# EAGLE library part XC7Z010-1CLG400C (library ICs)
Dual ARM® Cortex®-A9 MPCore™ with CoreSight™ System On Chip (SOC) IC Zynq®-7000 Artix™-7 FPGA, 28K Logic Cells 667MHz 400-CSPBGA (17x17)
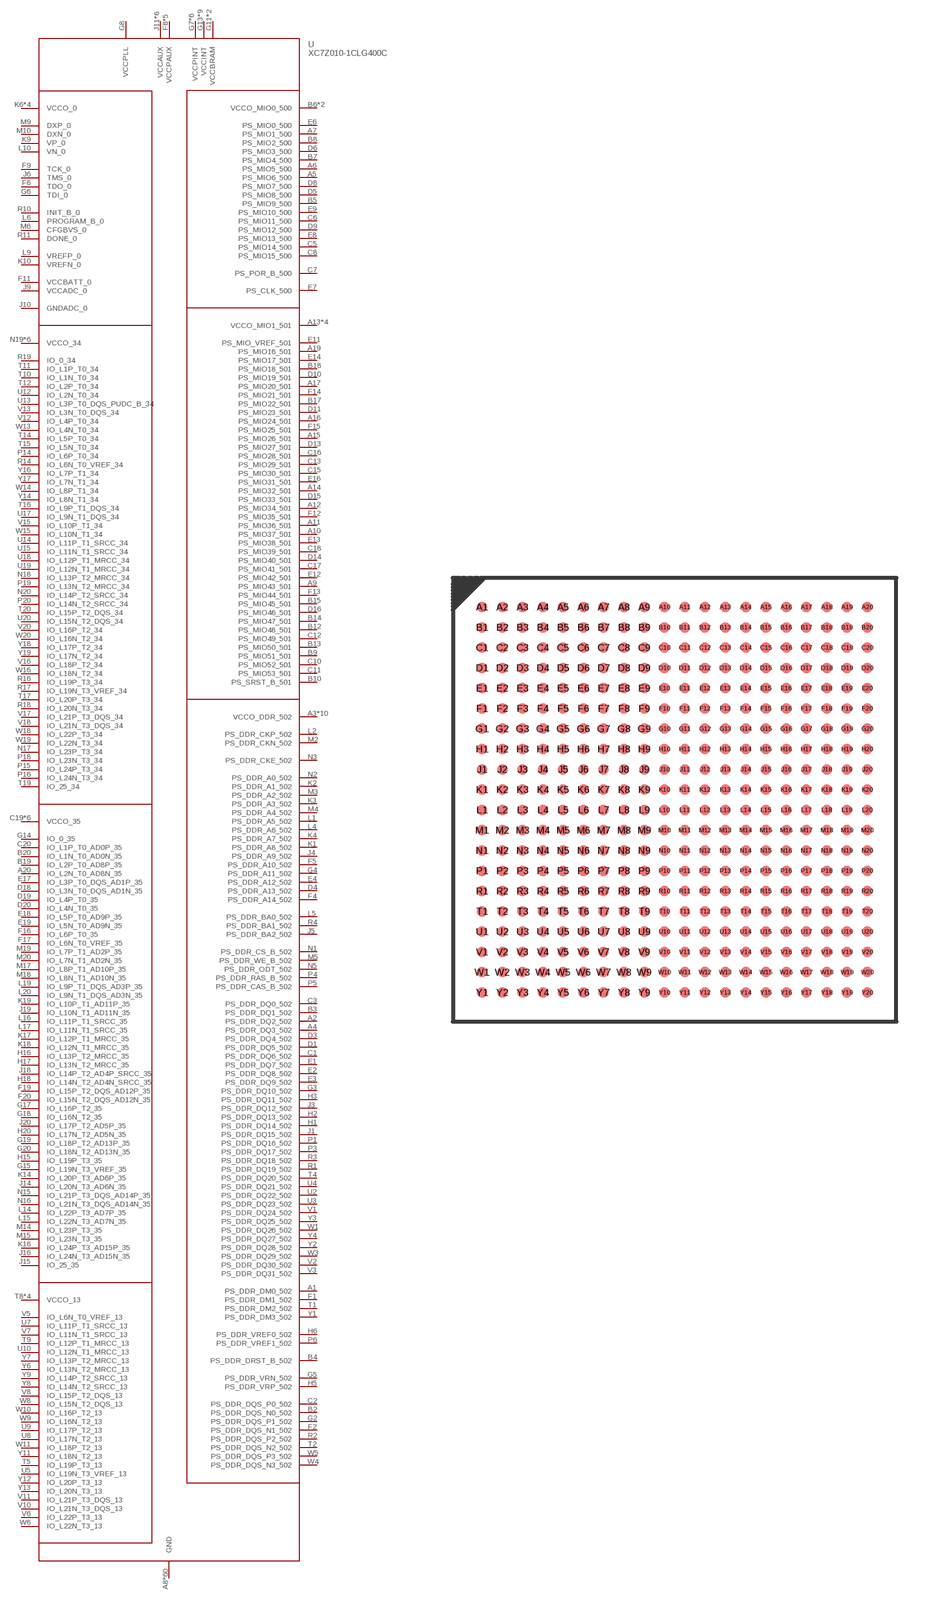
[diagram p300: symbol with the pads of CLG400_XIL-L; footprint CLG400_XIL-L]

Designator prefix U

## XC7Z010-1CLG400C (DIGIKEY: 122-1854-ND; HEIGHT: 3; PRICE_PER: 65.66; VALUE: XC7Z010-1CLG400C)  [CLG400_XIL-L]
A1  PS_DDR_DM0_502  out
A2  PS_DDR_DQ2_502
A3  VCCO_DDR_502  pwr
A4  PS_DDR_DQ3_502
A5  PS_MIO6_500
A6  PS_MIO5_500
A7  PS_MIO1_500
A8  GND  pas
A9  PS_MIO43_501
A10  PS_MIO37_501
A11  PS_MIO36_501
A12  PS_MIO34_501
A13  VCCO_MIO1_501  pwr
A14  PS_MIO32_501
A15  PS_MIO26_501
A16  PS_MIO24_501
A17  PS_MIO20_501
A18  GND  pas
A19  PS_MIO16_501
A20  IO_L2N_T0_AD8N_35
B1  GND  pas
B2  PS_DDR_DQS_N0_502
B3  PS_DDR_DQ1_502
B4  PS_DDR_DRST_B_502  out
B5  PS_MIO9_500
B6  VCCO_MIO0_500  pwr
B7  PS_MIO4_500
B8  PS_MIO2_500
B9  PS_MIO51_501
B10  PS_SRST_B_501  in
B11  GND  pas
B12  PS_MIO48_501
B13  PS_MIO50_501
B14  PS_MIO47_501
B15  PS_MIO45_501
B16  VCCO_MIO1_501  pwr
B17  PS_MIO22_501
B18  PS_MIO18_501
B19  IO_L2P_T0_AD8P_35
B20  IO_L1N_T0_AD0N_35
C1  PS_DDR_DQ6_502
C2  PS_DDR_DQS_P0_502
C3  PS_DDR_DQ0_502
C4  GND  pas
C5  PS_MIO14_500
C6  PS_MIO11_500
C7  PS_POR_B_500  in
C8  PS_MIO15_500
C9  GND  pas
C10  PS_MIO52_501
C11  PS_MIO53_501
C12  PS_MIO49_501
C13  PS_MIO29_501
C14  GND  pas
C15  PS_MIO30_501
C16  PS_MIO28_501
C17  PS_MIO41_501
C18  PS_MIO39_501
C19  VCCO_35  pwr
C20  IO_L1P_T0_AD0P_35
D1  PS_DDR_DQ5_502
D2  VCCO_DDR_502  pwr
D3  PS_DDR_DQ4_502
D4  PS_DDR_A13_502  out
D5  PS_MIO8_500
D6  PS_MIO3_500
D7  VCCO_MIO0_500  pwr
D8  PS_MIO7_500
D9  PS_MIO12_500
D10  PS_MIO19_501
D11  PS_MIO23_501
D12  VCCO_MIO1_501  pwr
D13  PS_MIO27_501
D14  PS_MIO40_501
D15  PS_MIO33_501
D16  PS_MIO46_501
D17  GND  pas
D18  IO_L3N_T0_DQS_AD1N_35
D19  IO_L4P_T0_35
D20  IO_L4N_T0_35
E1  PS_DDR_DQ7_502
E2  PS_DDR_DQ8_502
E3  PS_DDR_DQ9_502
E4  PS_DDR_A12_502  out
E5  VCCO_DDR_502  pwr
E6  PS_MIO0_500
E7  PS_CLK_500  in
E8  PS_MIO13_500
E9  PS_MIO10_500
E10  GND  pas
E11  PS_MIO_VREF_501  pwr
E12  PS_MIO42_501
E13  PS_MIO38_501
E14  PS_MIO17_501
E15  VCCO_MIO1_501  pwr
E16  PS_MIO31_501
E17  IO_L3P_T0_DQS_AD1P_35
E18  IO_L5P_T0_AD9P_35
E19  IO_L5N_T0_AD9N_35
E20  GND  pas
F1  PS_DDR_DM1_502  out
F2  PS_DDR_DQS_N1_502
F3  GND  pas
F4  PS_DDR_A14_502  out
F5  PS_DDR_A10_502  out
F6  TDO_0  out
F7  GND  pas
F8  VCCPAUX  pwr
F9  TCK_0  in
F10  GND  pas
F11  VCCBATT_0  pwr
F12  PS_MIO35_501
F13  PS_MIO44_501
F14  PS_MIO21_501
F15  PS_MIO25_501
F16  IO_L6P_T0_35
F17  IO_L6N_T0_VREF_35
F18  VCCO_35  pwr
F19  IO_L15P_T2_DQS_AD12P_35
F20  IO_L15N_T2_DQS_AD12N_35
G1  VCCO_DDR_502  pwr
G2  PS_DDR_DQS_P1_502
G3  PS_DDR_DQ10_502
G4  PS_DDR_A11_502  out
G5  PS_DDR_VRN_502  out
G6  TDI_0  in
G7  VCCPINT  pwr
G8  VCCPLL  pwr
G9  VCCPAUX  pwr
G10  GND  pas
G11  VCCBRAM  pwr
G12  GND  pas
G13  VCCINT  pwr
G14  IO_0_35
G15  IO_L19N_T3_VREF_35
G16  GND  pas
G17  IO_L16P_T2_35
G18  IO_L16N_T2_35
G19  IO_L18P_T2_AD13P_35
G20  IO_L18N_T2_AD13N_35
H1  PS_DDR_DQ14_502
H2  PS_DDR_DQ13_502
H3  PS_DDR_DQ11_502
H4  VCCO_DDR_502  pwr
H5  PS_DDR_VRP_502  out
H6  PS_DDR_VREF0_502  pwr
H7  GND  pas
H8  VCCPAUX  pwr
H9  GND  pas
H10  VCCBRAM  pwr
H11  GND  pas
H12  VCCINT  pwr
H13  GND  pas
H14  VCCO_35  pwr
H15  IO_L19P_T3_35
H16  IO_L13P_T2_MRCC_35
H17  IO_L13N_T2_MRCC_35
H18  IO_L14N_T2_AD4N_SRCC_35
H19  GND  pas
H20  IO_L17N_T2_AD5N_35
J1  PS_DDR_DQ15_502
J2  GND  pas
J3  PS_DDR_DQ12_502
J4  PS_DDR_A9_502  out
J5  PS_DDR_BA2_502  out
J6  TMS_0  in
J7  VCCPINT  pwr
J8  GND  pas
J9  VCCADC_0  pwr
J10  GNDADC_0  pas
J11  VCCAUX  pwr
J12  GND  pas
J13  VCCINT  pwr
J14  IO_L20N_T3_AD6N_35
J15  IO_25_35
J16  IO_L24N_T3_AD15N_35
J17  VCCO_35  pwr
J18  IO_L14P_T2_AD4P_SRCC_35
J19  IO_L10N_T1_AD11N_35
J20  IO_L17P_T2_AD5P_35
K1  PS_DDR_A8_502  out
K2  PS_DDR_A1_502  out
K3  PS_DDR_A3_502  out
K4  PS_DDR_A7_502  out
K5  GND  pas
K6  VCCO_0  pwr
K7  GND  pas
K8  VCCPAUX  pwr
K9  VP_0  in
K10  VREFN_0  pwr
K11  GND  pas
K12  VCCINT  pwr
K13  GND  pas
K14  IO_L20P_T3_AD6P_35
K15  GND  pas
K16  IO_L24P_T3_AD15P_35
K17  IO_L12P_T1_MRCC_35
K18  IO_L12N_T1_MRCC_35
K19  IO_L10P_T1_AD11P_35
K20  VCCO_35  pwr
L1  PS_DDR_A5_502  out
L2  PS_DDR_CKP_502  out
L3  VCCO_DDR_502  pwr
L4  PS_DDR_A6_502  out
L5  PS_DDR_BA0_502  out
L6  PROGRAM_B_0  in
L7  VCCPINT  pwr
L8  GND  pas
L9  VREFP_0  pwr
L10  VN_0  in
L11  VCCAUX  pwr
L12  GND  pas
L13  VCCINT  pwr
L14  IO_L22P_T3_AD7P_35
L15  IO_L22N_T3_AD7N_35
L16  IO_L11P_T1_SRCC_35
L17  IO_L11N_T1_SRCC_35
L18  GND  pas
L19  IO_L9P_T1_DQS_AD3P_35
L20  IO_L9N_T1_DQS_AD3N_35
M1  GND  pas
M2  PS_DDR_CKN_502  out
M3  PS_DDR_A2_502  out
M4  PS_DDR_A4_502  out
M5  PS_DDR_WE_B_502  out
M6  CFGBVS_0  in
M7  GND  pas
M8  VCCPAUX  pwr
M9  DXP_0  pas
M10  DXN_0  pas
M11  GND  pas
M12  VCCINT  pwr
M13  GND  pas
M14  IO_L23P_T3_35
M15  IO_L23N_T3_35
M16  VCCO_35  pwr
M17  IO_L8P_T1_AD10P_35
M18  IO_L8N_T1_AD10N_35
M19  IO_L7P_T1_AD2P_35
M20  IO_L7N_T1_AD2N_35
N1  PS_DDR_CS_B_502  out
N2  PS_DDR_A0_502  out
N3  PS_DDR_CKE_502  out
N4  GND  pas
N5  PS_DDR_ODT_502  out
N6  VCCO_0  pwr
N7  VCCPINT  pwr
N8  GND  pas
N9  VCCAUX  pwr
N10  GND  pas
N11  VCCAUX  pwr
N12  GND  pas
N13  VCCINT  pwr
N14  GND  pas
N15  IO_L21P_T3_DQS_AD14P_35
N16  IO_L21N_T3_DQS_AD14N_35
N17  IO_L23P_T3_34
N18  IO_L13P_T2_MRCC_34
N19  VCCO_34  pwr
N20  IO_L14P_T2_SRCC_34
P1  PS_DDR_DQ16_502
P2  VCCO_DDR_502  pwr
P3  PS_DDR_DQ17_502
P4  PS_DDR_RAS_B_502  out
P5  PS_DDR_CAS_B_502  out
P6  PS_DDR_VREF1_502  pwr
P7  GND  pas
P8  VCCPINT  pwr
P9  GND  pas
P10  VCCAUX  pwr
P11  GND  pas
P12  VCCINT  pwr
P13  GND  pas
P14  IO_L6P_T0_34
P15  IO_L24P_T3_34
P16  IO_L24N_T3_34
P17  GND  pas
P18  IO_L23N_T3_34
P19  IO_L13N_T2_MRCC_34
P20  IO_L14N_T2_SRCC_34
R1  PS_DDR_DQ19_502
R2  PS_DDR_DQS_P2_502
R3  PS_DDR_DQ18_502
R4  PS_DDR_BA1_502  out
R5  VCCO_DDR_502  pwr
R6  VCCO_0  pwr
R7  VCCPINT  pwr
R8  GND  pas
R9  VCCAUX  pwr
R10  INIT_B_0
R11  DONE_0
R12  GND  pas
R13  VCCINT  pwr
R14  IO_L6N_T0_VREF_34
R15  VCCO_34  pwr
R16  IO_L19P_T3_34
R17  IO_L19N_T3_VREF_34
R18  IO_L20N_T3_34
R19  IO_0_34
R20  GND  pas
T1  PS_DDR_DM2_502  out
T2  PS_DDR_DQS_N2_502
T3  GND  pas
T4  PS_DDR_DQ20_502
T5  IO_L19P_T3_13
T6  VCCO_0  pwr
T7  GND  pas
T8  VCCO_13  pwr
T9  IO_L12P_T1_MRCC_13
T10  IO_L1N_T0_34
T11  IO_L1P_T0_34
T12  IO_L2P_T0_34
T13  GND  pas
T14  IO_L5P_T0_34
T15  IO_L5N_T0_34
T16  IO_L9P_T1_DQS_34
T17  IO_L20P_T3_34
T18  VCCO_34  pwr
T19  IO_25_34
T20  IO_L15P_T2_DQS_34
U1  VCCO_DDR_502  pwr
U2  PS_DDR_DQ22_502
U3  PS_DDR_DQ23_502
U4  PS_DDR_DQ21_502
U5  IO_L19N_T3_VREF_13
U6  GND  pas
U7  IO_L11P_T1_SRCC_13
U8  IO_L17N_T2_13
U9  IO_L17P_T2_13
U10  IO_L12N_T1_MRCC_13
U11  VCCO_13  pwr
U12  IO_L2N_T0_34
U13  IO_L3P_T0_DQS_PUDC_B_34
U14  IO_L11P_T1_SRCC_34
U15  IO_L11N_T1_SRCC_34
U16  GND  pas
U17  IO_L9N_T1_DQS_34
U18  IO_L12P_T1_MRCC_34
U19  IO_L12N_T1_MRCC_34
U20  IO_L15N_T2_DQS_34
V1  PS_DDR_DQ24_502
V2  PS_DDR_DQ30_502
V3  PS_DDR_DQ31_502
V4  VCCO_DDR_502  pwr
V5  IO_L6N_T0_VREF_13
V6  IO_L22P_T3_13
V7  IO_L11N_T1_SRCC_13
V8  IO_L15P_T2_DQS_13
V9  GND  pas
V10  IO_L21N_T3_DQS_13
V11  IO_L21P_T3_DQS_13
V12  IO_L4P_T0_34
V13  IO_L3N_T0_DQS_34
V14  VCCO_34  pwr
V15  IO_L10P_T1_34
V16  IO_L18P_T2_34
V17  IO_L21P_T3_DQS_34
V18  IO_L21N_T3_DQS_34
V19  GND  pas
V20  IO_L16P_T2_34
W1  PS_DDR_DQ26_502
W2  GND  pas
W3  PS_DDR_DQ29_502
W4  PS_DDR_DQS_N3_502
W5  PS_DDR_DQS_P3_502
W6  IO_L22N_T3_13
W7  VCCO_13  pwr
W8  IO_L15N_T2_DQS_13
W9  IO_L16N_T2_13
W10  IO_L16P_T2_13
W11  IO_L18P_T2_13
W12  GND  pas
W13  IO_L4N_T0_34
W14  IO_L8P_T1_34
W15  IO_L10N_T1_34
W16  IO_L18N_T2_34
W17  VCCO_34  pwr
W18  IO_L22P_T3_34
W19  IO_L22N_T3_34
W20  IO_L16N_T2_34
Y1  PS_DDR_DM3_502  out
Y2  PS_DDR_DQ28_502
Y3  PS_DDR_DQ25_502
Y4  PS_DDR_DQ27_502
Y5  GND  pas
Y6  IO_L13N_T2_MRCC_13
Y7  IO_L13P_T2_MRCC_13
Y8  IO_L14N_T2_SRCC_13
Y9  IO_L14P_T2_SRCC_13
Y10  VCCO_13  pwr
Y11  IO_L18N_T2_13
Y12  IO_L20P_T3_13
Y13  IO_L20N_T3_13
Y14  IO_L8N_T1_34
Y15  GND  pas
Y16  IO_L7P_T1_34
Y17  IO_L7N_T1_34
Y18  IO_L17P_T2_34
Y19  IO_L17N_T2_34
Y20  VCCO_34  pwr

## Footprint CLG400_XIL-L (pad centres in mm)
smd 0.419 x 0.419: A1 -7.6,7.6; A2 -6.8,7.6; A3 -6,7.6; A4 -5.2,7.6; A5 -4.4,7.6; A6 -3.6,7.6; A7 -2.8,7.6; A8 -2,7.6; A9 -1.2,7.6; A10 -0.4,7.6; A11 0.4,7.6; A12 1.2,7.6; A13 2,7.6; A14 2.8,7.6; A15 3.6,7.6; A16 4.4,7.6; A17 5.2,7.6; A18 6,7.6; A19 6.8,7.6; A20 7.6,7.6; B1 -7.6,6.8; B2 -6.8,6.8; B3 -6,6.8; B4 -5.2,6.8; B5 -4.4,6.8; B6 -3.6,6.8; B7 -2.8,6.8; B8 -2,6.8; B9 -1.2,6.8; B10 -0.4,6.8; B11 0.4,6.8; B12 1.2,6.8; B13 2,6.8; B14 2.8,6.8; B15 3.6,6.8; B16 4.4,6.8; B17 5.2,6.8; B18 6,6.8; B19 6.8,6.8; B20 7.6,6.8; C1 -7.6,6; C2 -6.8,6; C3 -6,6; C4 -5.2,6; C5 -4.4,6; C6 -3.6,6; C7 -2.8,6; C8 -2,6; C9 -1.2,6; C10 -0.4,6; C11 0.4,6; C12 1.2,6; C13 2,6; C14 2.8,6; C15 3.6,6; C16 4.4,6; C17 5.2,6; C18 6,6; C19 6.8,6; C20 7.6,6; D1 -7.6,5.2; D2 -6.8,5.2; D3 -6,5.2; D4 -5.2,5.2; D5 -4.4,5.2; D6 -3.6,5.2; D7 -2.8,5.2; D8 -2,5.2; D9 -1.2,5.2; D10 -0.4,5.2; D11 0.4,5.2; D12 1.2,5.2; D13 2,5.2; D14 2.8,5.2; D15 3.6,5.2; D16 4.4,5.2; D17 5.2,5.2; D18 6,5.2; D19 6.8,5.2; D20 7.6,5.2; E1 -7.6,4.4; E2 -6.8,4.4; E3 -6,4.4; E4 -5.2,4.4; E5 -4.4,4.4; E6 -3.6,4.4; E7 -2.8,4.4; E8 -2,4.4; E9 -1.2,4.4; E10 -0.4,4.4; E11 0.4,4.4; E12 1.2,4.4; E13 2,4.4; E14 2.8,4.4; E15 3.6,4.4; E16 4.4,4.4; E17 5.2,4.4; E18 6,4.4; E19 6.8,4.4; E20 7.6,4.4; F1 -7.6,3.6; F2 -6.8,3.6; F3 -6,3.6; F4 -5.2,3.6; F5 -4.4,3.6; F6 -3.6,3.6; F7 -2.8,3.6; F8 -2,3.6; F9 -1.2,3.6; F10 -0.4,3.6; F11 0.4,3.6; F12 1.2,3.6; F13 2,3.6; F14 2.8,3.6; F15 3.6,3.6; F16 4.4,3.6; F17 5.2,3.6; F18 6,3.6; F19 6.8,3.6; F20 7.6,3.6; G1 -7.6,2.8; G2 -6.8,2.8; G3 -6,2.8; G4 -5.2,2.8; G5 -4.4,2.8; G6 -3.6,2.8; G7 -2.8,2.8; G8 -2,2.8; G9 -1.2,2.8; G10 -0.4,2.8; G11 0.4,2.8; G12 1.2,2.8; G13 2,2.8; G14 2.8,2.8; G15 3.6,2.8; G16 4.4,2.8; G17 5.2,2.8; G18 6,2.8; G19 6.8,2.8; G20 7.6,2.8; H1 -7.6,2; H2 -6.8,2; H3 -6,2; H4 -5.2,2; H5 -4.4,2; H6 -3.6,2; H7 -2.8,2; H8 -2,2; H9 -1.2,2; H10 -0.4,2; H11 0.4,2; H12 1.2,2; H13 2,2; H14 2.8,2; H15 3.6,2; H16 4.4,2; H17 5.2,2; H18 6,2; H19 6.8,2; H20 7.6,2; J1 -7.6,1.2; J2 -6.8,1.2; J3 -6,1.2; J4 -5.2,1.2; J5 -4.4,1.2; J6 -3.6,1.2; J7 -2.8,1.2; J8 -2,1.2; J9 -1.2,1.2; J10 -0.4,1.2; J11 0.4,1.2; J12 1.2,1.2; J13 2,1.2; J14 2.8,1.2; J15 3.6,1.2; J16 4.4,1.2; J17 5.2,1.2; J18 6,1.2; J19 6.8,1.2; J20 7.6,1.2; K1 -7.6,0.4; K2 -6.8,0.4; K3 -6,0.4; K4 -5.2,0.4; K5 -4.4,0.4; K6 -3.6,0.4; K7 -2.8,0.4; K8 -2,0.4; K9 -1.2,0.4; K10 -0.4,0.4; K11 0.4,0.4; K12 1.2,0.4; K13 2,0.4; K14 2.8,0.4; K15 3.6,0.4; K16 4.4,0.4; K17 5.2,0.4; K18 6,0.4; K19 6.8,0.4; K20 7.6,0.4; L1 -7.6,-0.4; L2 -6.8,-0.4; L3 -6,-0.4; L4 -5.2,-0.4; L5 -4.4,-0.4; L6 -3.6,-0.4; L7 -2.8,-0.4; L8 -2,-0.4; L9 -1.2,-0.4; L10 -0.4,-0.4; L11 0.4,-0.4; L12 1.2,-0.4; L13 2,-0.4; L14 2.8,-0.4; L15 3.6,-0.4; L16 4.4,-0.4; L17 5.2,-0.4; L18 6,-0.4; L19 6.8,-0.4; L20 7.6,-0.4; M1 -7.6,-1.2; M2 -6.8,-1.2; M3 -6,-1.2; M4 -5.2,-1.2; M5 -4.4,-1.2; M6 -3.6,-1.2; M7 -2.8,-1.2; M8 -2,-1.2; M9 -1.2,-1.2; M10 -0.4,-1.2; M11 0.4,-1.2; M12 1.2,-1.2; M13 2,-1.2; M14 2.8,-1.2; M15 3.6,-1.2; M16 4.4,-1.2; M17 5.2,-1.2; M18 6,-1.2; M19 6.8,-1.2; M20 7.6,-1.2; N1 -7.6,-2; N2 -6.8,-2; N3 -6,-2; N4 -5.2,-2; N5 -4.4,-2; N6 -3.6,-2; N7 -2.8,-2; N8 -2,-2; N9 -1.2,-2; N10 -0.4,-2; N11 0.4,-2; N12 1.2,-2; N13 2,-2; N14 2.8,-2; N15 3.6,-2; N16 4.4,-2; N17 5.2,-2; N18 6,-2; N19 6.8,-2; N20 7.6,-2; P1 -7.6,-2.8; P2 -6.8,-2.8; P3 -6,-2.8; P4 -5.2,-2.8; P5 -4.4,-2.8; P6 -3.6,-2.8; P7 -2.8,-2.8; P8 -2,-2.8; P9 -1.2,-2.8; P10 -0.4,-2.8; P11 0.4,-2.8; P12 1.2,-2.8; P13 2,-2.8; P14 2.8,-2.8; P15 3.6,-2.8; P16 4.4,-2.8; P17 5.2,-2.8; P18 6,-2.8; P19 6.8,-2.8; P20 7.6,-2.8; R1 -7.6,-3.6; R2 -6.8,-3.6; R3 -6,-3.6; R4 -5.2,-3.6; R5 -4.4,-3.6; R6 -3.6,-3.6; R7 -2.8,-3.6; R8 -2,-3.6; R9 -1.2,-3.6; R10 -0.4,-3.6; R11 0.4,-3.6; R12 1.2,-3.6; R13 2,-3.6; R14 2.8,-3.6; R15 3.6,-3.6; R16 4.4,-3.6; R17 5.2,-3.6; R18 6,-3.6; R19 6.8,-3.6; R20 7.6,-3.6; T1 -7.6,-4.4; T2 -6.8,-4.4; T3 -6,-4.4; T4 -5.2,-4.4; T5 -4.4,-4.4; T6 -3.6,-4.4; T7 -2.8,-4.4; T8 -2,-4.4; T9 -1.2,-4.4; T10 -0.4,-4.4; T11 0.4,-4.4; T12 1.2,-4.4; T13 2,-4.4; T14 2.8,-4.4; T15 3.6,-4.4; T16 4.4,-4.4; T17 5.2,-4.4; T18 6,-4.4; T19 6.8,-4.4; T20 7.6,-4.4; U1 -7.6,-5.2; U2 -6.8,-5.2; U3 -6,-5.2; U4 -5.2,-5.2; U5 -4.4,-5.2; U6 -3.6,-5.2; U7 -2.8,-5.2; U8 -2,-5.2; U9 -1.2,-5.2; U10 -0.4,-5.2; U11 0.4,-5.2; U12 1.2,-5.2; U13 2,-5.2; U14 2.8,-5.2; U15 3.6,-5.2; U16 4.4,-5.2; U17 5.2,-5.2; U18 6,-5.2; U19 6.8,-5.2; U20 7.6,-5.2; V1 -7.6,-6; V2 -6.8,-6; V3 -6,-6; V4 -5.2,-6; V5 -4.4,-6; V6 -3.6,-6; V7 -2.8,-6; V8 -2,-6; V9 -1.2,-6; V10 -0.4,-6; V11 0.4,-6; V12 1.2,-6; V13 2,-6; V14 2.8,-6; V15 3.6,-6; V16 4.4,-6; V17 5.2,-6; V18 6,-6; V19 6.8,-6; V20 7.6,-6; W1 -7.6,-6.8; W2 -6.8,-6.8; W3 -6,-6.8; W4 -5.2,-6.8; W5 -4.4,-6.8; W6 -3.6,-6.8; W7 -2.8,-6.8; W8 -2,-6.8; W9 -1.2,-6.8; W10 -0.4,-6.8; W11 0.4,-6.8; W12 1.2,-6.8; W13 2,-6.8; W14 2.8,-6.8; W15 3.6,-6.8; W16 4.4,-6.8; W17 5.2,-6.8; W18 6,-6.8; W19 6.8,-6.8; W20 7.6,-6.8; Y1 -7.6,-7.6; Y2 -6.8,-7.6; Y3 -6,-7.6; Y4 -5.2,-7.6; Y5 -4.4,-7.6; Y6 -3.6,-7.6; Y7 -2.8,-7.6; Y8 -2,-7.6; Y9 -1.2,-7.6; Y10 -0.4,-7.6; Y11 0.4,-7.6; Y12 1.2,-7.6; Y13 2,-7.6; Y14 2.8,-7.6; Y15 3.6,-7.6; Y16 4.4,-7.6; Y17 5.2,-7.6; Y18 6,-7.6; Y19 6.8,-7.6; Y20 7.6,-7.6